# Altium integrated library SmartLoad_LIB.IntLib: 50 symbols (part 1 of 2)
Pins are listed as number, name and electrical type; pins without a type are passive.

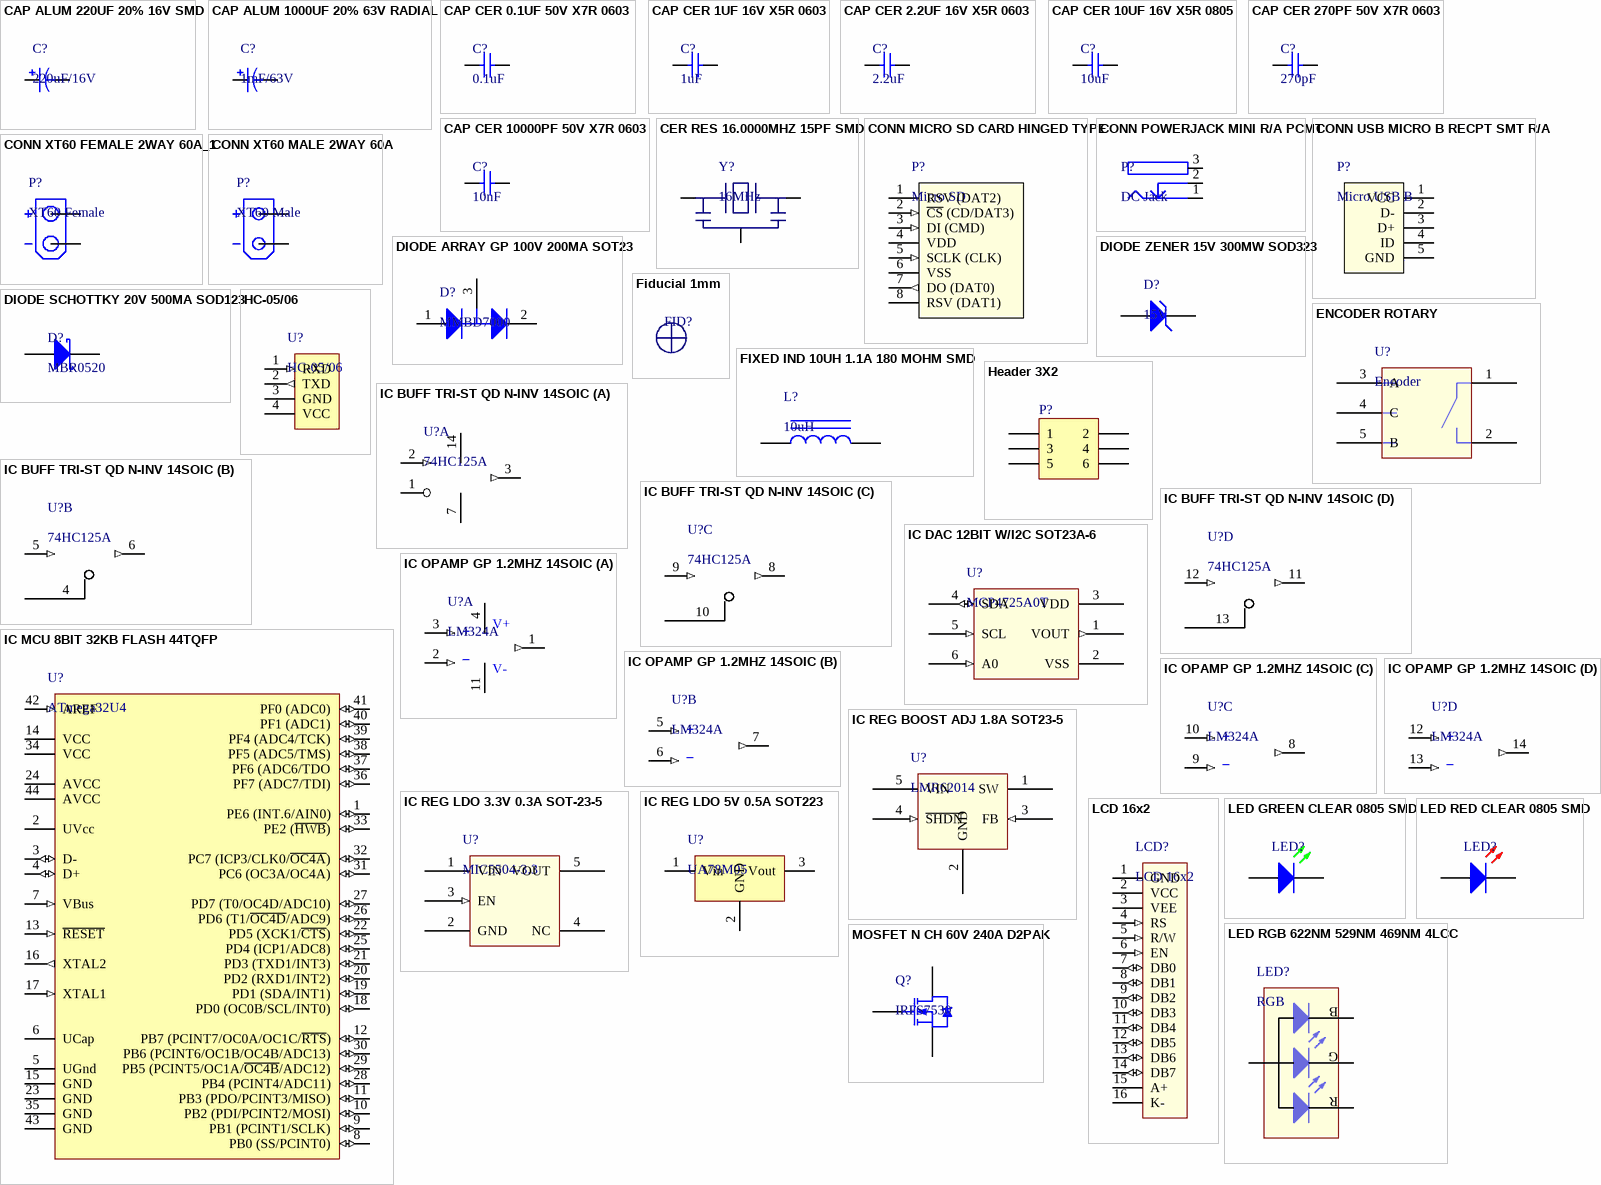
[diagram p0: symbols CAP ALUM 220UF 20% 16V SMD to MOSFET N CH 60V 240A D2PAK]

## CAP ALUM 220UF 20% 16V SMD
designator C?, comment 220uF/16V
CAP ALUM 220UF 20% 16V SMD; Manufacturer: Nichicon; Manufacturer Part Number: UUR1C221MNL1GS; Capacitance: 220µF; Lifetime @ Temp.: 2000 Hrs @ 85°C; Ripple Current: 215mA; Surface Mount Land Size: 0.327" L x 0.327" W (8.30mm x 8.30mm); Supplier 1: Digi-Key; RoHS: RoHS Compliant; Category: Capacitors; Stock 1: 6008; Pricing 1: 1=0.47, 10=0.329, 25=0.2696, 50=0.23, 100=0.1972, 250=0.16436 (USD); Packaging: Cut Tape (CT); Part Status: Active; Tolerance: ±20%; Voltage Rating: 16V; ESR (Equivalent Series Resistance): -; Operating Temperature: -40°C ~ 85°C; Polarization: -; Applications: General Purpose; Impedance: -; Lead Spacing: -; Size / Dimension: 0.315" Dia (8.00mm); Height - Seated (Max): 0.413" (10.50mm); Mounting Type: Surface Mount; Package / Case: Radial, Can - SMD; ComponentLink1URL: http://nichicon-us.com/english/products/pdfs/e-uur.pdf; ComponentLink1Description: http://nichicon-us.com/english/products/pdfs/e-uur.pdf; Supplier Part Number 1: 493-6215-1-ND
footprint CAP 8x10 (Aluminum Electrolytic Capacitor, Body 8,30x8,30x10,80mm, IPC Medium Density)
pins: 1, 2

## CAP ALUM 1000UF 20% 63V RADIAL
designator C?, comment 1mF/63V
CAP ALUM 1000UF 20% 63V RADIAL; Manufacturer: Nichicon; Manufacturer Part Number: UVR1J102MHD; Capacitance: 1000µF; Lifetime @ Temp.: 2000 Hrs @ 85°C; Ripple Current: 1.3A; Supplier 1: Digi-Key; RoHS: RoHS Compliant; Category: Capacitors; Stock 1: 13776; Pricing 1: 1=0.96, 10=0.759, 25=0.6956, 50=0.6576, 100=0.569, 250=0.5058, 500=0.42994, 1000=0.37935, 2500=0.35406 (USD); Packaging: Bulk; Part Status: Active; Tolerance: ±20%; Voltage Rating: 63V; ESR (Equivalent Series Resistance): -; Operating Temperature: -40°C ~ 85°C; Polarization: -; Applications: General Purpose; Impedance: -; Lead Spacing: 0.295" (7.50mm); Size / Dimension: 0.630" Dia (16.00mm); Height - Seated (Max): 1.063" (27.00mm); Surface Mount Land Size: -; Mounting Type: Through Hole; Package / Case: Radial, Can; ComponentLink1URL: http://nichicon-us.com/english/products/pdfs/e-uvr.pdf; ComponentLink1Description: http://nichicon-us.com/english/products/pdfs/e-uvr.pdf; Supplier Part Number 1: 493-1129-ND
footprint CAP RAD 16x25
footprint CAP RAD 16x25 RIGHT1
footprint CAP RAD 16x25 RIGHT2
pins: 1, 2

## CAP CER 0.1UF 50V X7R 0603
designator C?, comment 0.1uF
CAP CER 0.1UF 50V X7R 0603; Manufacturer: Murata Electronics North America; Manufacturer Part Number: GRM188R71H104KA93D; Capacitance: 0.10µF; Tolerance: ±10%; Supplier 1: Digi-Key; RoHS: RoHS Compliant; Category: Capacitors; Stock 1: 8915214; Pricing 1: 1=0.1, 10=0.04, 50=0.0214, 100=0.0182, 250=0.01484, 500=0.0127, 1000=0.0099 (USD); Packaging: Cut Tape (CT); Part Status: Active; Voltage - Rated: 50V; Temperature Coefficient: X7R; Operating Temperature: -55°C ~ 125°C; Features: -; Ratings: -; Applications: General Purpose; Failure Rate: *; Mounting Type: Surface Mount, MLCC; Package / Case: 0603 (1608 Metric); Size / Dimension: 0.063" L x 0.031" W (1.60mm x 0.80mm); Height - Seated (Max): -; Thickness (Max): 0.035" (0.90mm); Lead Spacing: -; Lead Style: -; ComponentLink1URL: http://www.murata.com/~/media/webrenewal/support/library/catalog/products/capacitor/mlcc/c02e.pdf; ComponentLink1Description: http://www.murata.com/~/media/webrenewal/support/library/catalog/products/capacitor/mlcc/c02e.pdf; Supplier Part Number 1: 490-1519-1-ND
footprint CAP 0603 N (Chip, Body 1.6x0.8mm, IPC Medium Density)
pins: 1, 2

## CAP CER 1UF 16V X5R 0603
designator C?, comment 1uF
CAP CER 1UF 16V X5R 0603; Manufacturer: Murata Electronics North America; Manufacturer Part Number: GRM188R61C105KA93D; Capacitance: 1µF; Tolerance: ±10%; Supplier 1: Digi-Key; RoHS: RoHS Compliant; Category: Capacitors; Stock 1: 899102; Pricing 1: 1=0.1, 10=0.034, 50=0.0182, 100=0.0154, 250=0.0126, 500=0.01078, 1000=0.0084 (USD); Packaging: Cut Tape (CT); Part Status: Active; Voltage - Rated: 16V; Temperature Coefficient: X5R; Operating Temperature: -55°C ~ 85°C; Features: -; Ratings: -; Applications: General Purpose; Failure Rate: *; Mounting Type: Surface Mount, MLCC; Package / Case: 0603 (1608 Metric); Size / Dimension: 0.063" L x 0.031" W (1.60mm x 0.80mm); Height - Seated (Max): -; Thickness (Max): 0.035" (0.90mm); Lead Spacing: -; Lead Style: -; ComponentLink1URL: http://www.murata.com/~/media/webrenewal/support/library/catalog/products/capacitor/mlcc/c02e.pdf; ComponentLink1Description: http://www.murata.com/~/media/webrenewal/support/library/catalog/products/capacitor/mlcc/c02e.pdf; Supplier Part Number 1: 490-1536-1-ND
footprint CAP 0603 N (Chip, Body 1.6x0.8mm, IPC Medium Density)
pins: 1, 2

## CAP CER 2.2UF 16V X5R 0603
designator C?, comment 2.2uF
CAP CER 2.2UF 16V X5R 0603; Manufacturer: Murata Electronics North America; Manufacturer Part Number: GRM188R61C225KE15D; Capacitance: 2.2µF; Tolerance: ±10%; Supplier 1: Digi-Key; RoHS: RoHS Compliant; Category: Capacitors; Stock 1: 904112; Pricing 1: 1=0.12, 10=0.08, 50=0.046, 100=0.038, 250=0.032, 500=0.0268, 1000=0.022 (USD); Packaging: Cut Tape (CT); Part Status: Active; Voltage - Rated: 16V; Temperature Coefficient: X5R; Operating Temperature: -55°C ~ 85°C; Features: -; Ratings: -; Applications: General Purpose; Failure Rate: *; Mounting Type: Surface Mount, MLCC; Package / Case: 0603 (1608 Metric); Size / Dimension: 0.063" L x 0.031" W (1.60mm x 0.80mm); Height - Seated (Max): -; Thickness (Max): 0.035" (0.90mm); Lead Spacing: -; Lead Style: -; ComponentLink1URL: http://www.murata.com/~/media/webrenewal/support/library/catalog/products/capacitor/mlcc/c02e.pdf; ComponentLink1Description: http://www.murata.com/~/media/webrenewal/support/library/catalog/products/capacitor/mlcc/c02e.pdf; Supplier Part Number 1: 490-3296-1-ND
footprint CAP 0603 N (Chip, Body 1.6x0.8mm, IPC Medium Density)
pins: 1, 2

## CAP CER 10UF 16V X5R 0805
designator C?, comment 10uF
CAP CER 10UF 16V X5R 0805; Manufacturer: Murata Electronics North America; Manufacturer Part Number: GRM21BR61C106KE15L; Capacitance: 10µF; Tolerance: ±10%; Supplier 1: Digi-Key; RoHS: RoHS Compliant; Category: Capacitors; Stock 1: 517451; Pricing 1: 1=0.19, 10=0.13, 50=0.0748, 100=0.0618, 250=0.052, 500=0.04356, 1000=0.03575 (USD); Packaging: Cut Tape (CT); Part Status: Active; Voltage - Rated: 16V; Temperature Coefficient: X5R; Operating Temperature: -55°C ~ 85°C; Features: -; Ratings: -; Applications: General Purpose; Failure Rate: *; Mounting Type: Surface Mount, MLCC; Package / Case: 0805 (2012 Metric); Size / Dimension: 0.079" L x 0.049" W (2.00mm x 1.25mm); Height - Seated (Max): -; Thickness (Max): 0.053" (1.35mm); Lead Spacing: -; Lead Style: -; ComponentLink1URL: http://www.murata.com/~/media/webrenewal/support/library/catalog/products/capacitor/mlcc/c02e.pdf; ComponentLink1Description: http://www.murata.com/~/media/webrenewal/support/library/catalog/products/capacitor/mlcc/c02e.pdf; Supplier Part Number 1: 490-3886-1-ND
footprint CAP 0805 N (Chip, Body 2.0x1.3mm, IPC Medium Density)
pins: 1, 2

## CAP CER 270PF 50V X7R 0603
designator C?, comment 270pF
CAP CER 270PF 50V X7R 0603; Manufacturer: Murata Electronics North America; Manufacturer Part Number: GRM188R71H271KA01D; Tolerance: ±10%; Supplier 1: Digi-Key; RoHS: RoHS Compliant; Category: Capacitors; Stock 1: 28424; Pricing 1: 1=0.1, 10=0.072, 50=0.039, 100=0.033, 250=0.027, 500=0.0231, 1000=0.018 (USD); Packaging: Cut Tape (CT); Part Status: Active; Capacitance: 270pF; Voltage - Rated: 50V; Temperature Coefficient: X7R; Operating Temperature: -55°C ~ 125°C; Features: -; Ratings: -; Applications: General Purpose; Failure Rate: *; Mounting Type: Surface Mount, MLCC; Package / Case: 0603 (1608 Metric); Size / Dimension: 0.063" L x 0.031" W (1.60mm x 0.80mm); Height - Seated (Max): -; Thickness (Max): 0.035" (0.90mm); Lead Spacing: -; Lead Style: -; ComponentLink1URL: http://www.murata.com/~/media/webrenewal/support/library/catalog/products/capacitor/mlcc/c02e.pdf; ComponentLink1Description: http://www.murata.com/~/media/webrenewal/support/library/catalog/products/capacitor/mlcc/c02e.pdf; Supplier Part Number 1: 490-1485-1-ND
footprint CAP 0603 N (Chip, Body 1.6x0.8mm, IPC Medium Density)
pins: 1, 2

## CAP CER 10000PF 50V X7R 0603
designator C?, comment 10nF
CAP CER 10000PF 50V X7R 0603; Manufacturer: Murata Electronics North America; Manufacturer Part Number: GRM188R71H103KA01D; Tolerance: ±10%; Supplier 1: Digi-Key; RoHS: RoHS Compliant; Category: Capacitors; Stock 1: 3372883; Pricing 1: 1=0.1, 10=0.019, 50=0.01, 100=0.0085, 250=0.00696, 500=0.00596, 1000=0.00465 (USD); Packaging: Cut Tape (CT); Part Status: Active; Capacitance: 10000pF; Voltage - Rated: 50V; Temperature Coefficient: X7R; Operating Temperature: -55°C ~ 125°C; Features: -; Ratings: -; Applications: General Purpose; Failure Rate: *; Mounting Type: Surface Mount, MLCC; Package / Case: 0603 (1608 Metric); Size / Dimension: 0.063" L x 0.031" W (1.60mm x 0.80mm); Height - Seated (Max): -; Thickness (Max): 0.035" (0.90mm); Lead Spacing: -; Lead Style: -; ComponentLink1URL: http://www.murata.com/~/media/webrenewal/support/library/catalog/products/capacitor/mlcc/c02e.pdf; ComponentLink1Description: http://www.murata.com/~/media/webrenewal/support/library/catalog/products/capacitor/mlcc/c02e.pdf; Supplier Part Number 1: 490-1512-1-ND
footprint CAP 0603 N (Chip, Body 1.6x0.8mm, IPC Medium Density)
pins: 1, 2

## CER RES 16.0000MHZ 15PF SMD
designator Y?, comment 16MHz
CER RES 16.0000MHZ 15PF SMD; Manufacturer: Murata Electronics North America; Manufacturer Part Number: CSTCE16M0V53-R0; Frequency Stability: ±0.3%; Frequency Tolerance: ±0.5%; Supplier 1: Digi-Key; RoHS: RoHS Compliant; Category: Crystals and Oscillators; Stock 1: 39156; Pricing 1: 1=0.48, 10=0.4, 50=0.3602, 100=0.3205, 500=0.30368, 1000=0.25637 (USD); Packaging: Cut Tape (CT); Part Status: Active; Type: Ceramic; Frequency: 16MHz; Features: Built in Capacitor; Capacitance: 15pF; Impedance: -; Operating Temperature: -20°C ~ 80°C; Mounting Type: Surface Mount; Package / Case: 3-SMD, Non-Standard; Size / Dimension: 0.126" L x 0.051" W (3.20mm x 1.30mm); Height: 0.039" (1.00mm); ComponentLink1URL: http://www.murata.com/~/media/webrenewal/support/library/catalog/products/timingdevice/ceralock/p16e.ashx; ComponentLink1Description: http://www.murata.com/~/media/webrenewal/support/library/catalog/products/timingdevice/ceralock/p16e.ashx; Supplier Part Number 1: 490-1198-1-ND
footprint CSTCE
pins: 1, 2 GND, 3 10

## CONN MICRO SD CARD HINGED TYPE
designator P?, comment Micro SD
CONN MICRO SD CARD HINGED TYPE; Manufacturer: Molex, LLC; Manufacturer Part Number: 0472192001; Card Type: Secure Digital - microSD™; Number of Positions: 8; Connector Type: Connector and Ejector; Insertion, Removal Method: Hinged Lid; Supplier 1: Digi-Key; RoHS: RoHS Compliant; Category: Connectors, Interconnects; Stock 1: 0; Pricing 1: 1=1.11, 10=0.973, 25=0.916, 50=0.8776, 100=0.8395, 250=0.7632, 500=0.68686, 1000=0.61054 (USD); Packaging: Cut Tape (CT); Ejector Side: -; Mounting Type: Surface Mount, Right Angle; Features: -; Height Above Board: 0.075" (1.90mm); Mounting Feature: Normal, Standard - Top; Contact Finish: Gold; Contact Finish Thickness: 20µin (0.51µm); ComponentLink1URL: http://www.molex.com/pdm_docs/sd/472192001_sd.pdf; ComponentLink1Description: http://www.molex.com/pdm_docs/sd/472192001_sd.pdf; Supplier Part Number 1: WM6698CT-ND
footprint USD SOCKET (Micro SD Socket)
pins: 1 RSV (DAT2), 2 ~{CS} (CD/DAT3) (in), 3 DI (CMD) (in), 4 VDD (power), 5 SCLK (CLK) (in), 6 VSS (power), 7 DO (DAT0) (out), 8 RSV (DAT1), G1 GND hidden to GND, G2 GND hidden to GND, G3 GND hidden to GND, G4 GND hidden to GND
1 alternate drawing of the same symbol

## CONN POWERJACK MINI R/A PCMT
designator P?, comment DC Jack
CONN POWERJACK MINI R/A PCMT; Manufacturer: Switchcraft Inc.; Manufacturer Part Number: RAPC712X; Gender: Male; Industry Recognized Mating Diameter: 2.50mm ID (0.098"), 5.50mm OD (0.217"); Actual Diameter: 0.098" (2.50mm ID), 0.248" (6.30mm OD); Number of Positions/Contacts: 2 Conductors, 3 Contacts; Internal Switch(s): Single Switch, Normally Closed; Shielding: Unshielded; Current Rating: 5A; Includes: 1 pc - 1 Connector; Supplier 1: Digi-Key; RoHS: RoHS Compliant; Category: Connectors, Interconnects; Stock 1: 37774; Pricing 1: 1=0.9, 10=0.833, 25=0.7856, 50=0.7616, 100=0.7259, 250=0.714, 500=0.7 (USD); Packaging: Bulk; Part Status: Active; Connector Type: Jack; Mounting Type: Through Hole, Right Angle; Mounting Feature: -; Termination: Solder Eyelet(s); Features: -; Insulation Color: -; Voltage - Rated: -; Mating Length/Depth: -; Contact Material - Plating: Silver; Body Material: -; Operating Temperature: -; ComponentLink1URL: http://www.conxall.com/Drawings/rapc712x_cd.pdf; ComponentLink1Description: http://www.conxall.com/Drawings/rapc712x_cd.pdf; Supplier Part Number 1: SC237-ND
footprint PJ-002B (DC Power Jack, 2.5mm, KLD Series, PCB Mount)
pins: 1 GND (power), 2 DETECT, 3 V+ (power)

## CONN USB MICRO B RECPT SMT R/A
designator P?, comment Micro USB B
CONN USB MICRO B RECPT SMT R/A; Manufacturer: Amphenol FCI; Manufacturer Part Number: 10118192-0001LF; Connector Type: USB - micro B; Number of Contacts: 5; Gender: Receptacle; Specifications: USB 2.0; Supplier 1: Digi-Key; RoHS: RoHS Compliant; Category: Connectors, Interconnects; Stock 1: 283825; Pricing 1: 1=0.46, 10=0.437, 25=0.3744, 50=0.318, 100=0.3056, 250=0.27444, 500=0.26196 (USD); Packaging: Cut Tape (CT); Part Status: Active; Mounting Type: Surface Mount, Right Angle, Horizontal; Features: Flange, Shielded; Ingress Protection: -; ComponentLink1URL: http://portal.fciconnect.com/Comergent//fci/drawing/10118192.pdf; ComponentLink1Description: http://portal.fciconnect.com/Comergent//fci/drawing/10118192.pdf; Supplier Part Number 1: 609-4613-1-ND
footprint MICRO USB B (Connector Micro USB B Receptacle SMT)
pins: 1 VCC, 2 D-, 3 D+, 4 ID, 5 GND

## CONN XT60 FEMALE 2WAY 60A_1
designator P?, comment XT60 Female
CONN XT60 FEMALE 2WAY 60A; Manufacturer: Turnigy; No. of Contacts: 2; Gender: Connector (Female); Pitch Spacing: 7.15mm; Contact Termination Type: Through Hole; No. of Rows: 1; Contact Termination: Through Hole Vertical; Current Rating: 60; Supplier 1: HobbyKing; Manufacturer Part Number: XT60; Stock 1: Available; Pricing 1: 5=2.85 (USD); Contact Plating: Gold; Lead Spacing: 7.15mm; Termination Method: Solder; ComponentLink1URL: http://www.hobbyking.com/hobbyking/store/__18448__Female_XT60_Connectors_5pcs_bag_GENUINE.html; ComponentLink1Description: http://www.hobbyking.com/hobbyking/store/__18448__Female_XT60_Connectors_5pcs_bag_GENUINE.html; ComponentLink2URL: http://www.3dcontentcentral.com/secure/download-model.aspx?catalogid=171&id=221628; ComponentLink2Description: http://www.3dcontentcentral.com/secure/download-model.aspx?catalogid=171&id=221628; Supplier Part Number 1: 601Bx5
footprint XT60 FEMALE
pins: 1 + (power), 2 - (power)

## CONN XT60 MALE 2WAY 60A
designator P?, comment XT60 Male
CONN XT60 MALE 2WAY 60A; Manufacturer: Turnigy; No. of Contacts: 2; Gender: Connector (Male); Pitch Spacing: 7.15mm; Contact Termination Type: Through Hole; No. of Rows: 1; Contact Termination: Through Hole Vertical; Current Rating: 60; Supplier 1: HobbyKing; Manufacturer Part Number: XT60; Stock 1: Available; Pricing 1: 5=2.02 (USD); Contact Plating: Gold; Lead Spacing: 7.15mm; Termination Method: Solder; ComponentLink1URL: http://www.hobbyking.com/hobbyking/store/__10414__Male_XT60_Connectors_5pcs_bag_GENUINE.html; ComponentLink1Description: http://www.hobbyking.com/hobbyking/store/__10414__Male_XT60_Connectors_5pcs_bag_GENUINE.html; ComponentLink2URL: http://www.3dcontentcentral.com/secure/download-model.aspx?catalogid=171&id=221629; ComponentLink2Description: http://www.3dcontentcentral.com/secure/download-model.aspx?catalogid=171&id=221629; Supplier Part Number 1: 601Ax5
footprint XT60 MALE
pins: 1 + (power), 2 - (power)

## DIODE ARRAY GP 100V 200MA SOT23
designator D?, comment MMBD7000
DIODE ARRAY GP 100V 200MA SOT23; Manufacturer: ON Semiconductor; Manufacturer Part Number: MMBD7000LT1G; Diode Configuration: 1 Pair Series Connection; Diode Type: Standard; Current - Average Rectified (Io) (per Diode): 200mA (DC); Voltage - Forward (Vf) (Max) @ If: 1.1V @ 100mA; Speed: Small Signal =< 200mA (Io), Any Speed; Reverse Recovery Time (trr): 4ns; Current - Reverse Leakage @ Vr: 3µA @ 100V; Supplier 1: Digi-Key; RoHS: RoHS Compliant; Category: Discrete Semiconductor Products; Stock 1: 116635; Pricing 1: 1=0.13, 10=0.115, 100=0.0626, 500=0.0385, 1000=0.02627 (USD); Packaging: Cut Tape (CT); Voltage - DC Reverse (Vr) (Max): 100V; Mounting Type: Surface Mount; Package / Case: TO-236-3, SC-59, SOT-23-3; Supplier Device Package: SOT-23-3 (TO-236); ComponentLink1URL: http://www.onsemi.com/pub_link/Collateral/MMBD7000LT1-D.PDF; ComponentLink1Description: http://www.onsemi.com/pub_link/Collateral/MMBD7000LT1-D.PDF; Supplier Part Number 1: MMBD7000LT1GOSCT-ND
footprint SOT23-3 N (SOT23, 3-Leads, Body 2.9x1.3mm, Pitch 0.95mm, Lead Span 2.5mm, IPC Medium Density)
pins: 1 A, 2 K, 3 K/A

## DIODE SCHOTTKY 20V 500MA SOD123
designator D?, comment MBR0520
DIODE SCHOTTKY 20V 500MA SOD123; Manufacturer: ON Semiconductor; Manufacturer Part Number: MBR0520LT1G; Voltage - Forward (Vf) (Max) @ If: 385mV @ 500mA; Speed: Fast Recovery =< 500ns, > 200mA (Io); Current - Reverse Leakage @ Vr: 250µA @ 20V; Supplier 1: Digi-Key; RoHS: RoHS Compliant; Category: Discrete Semiconductor Products; Stock 1: 170961; Pricing 1: 1=0.33, 10=0.273, 100=0.1444, 500=0.09496, 1000=0.0647 (USD); Packaging: Cut Tape (CT); Part Status: Active; Diode Type: Schottky; Voltage - DC Reverse (Vr) (Max): 20V; Current - Average Rectified (Io): 500mA; Reverse Recovery Time (trr): -; Capacitance @ Vr, F: -; Mounting Type: Surface Mount; Package / Case: SOD-123; Supplier Device Package: SOD-123; Operating Temperature - Junction: -65°C ~ 125°C; ComponentLink1URL: http://www.onsemi.com/pub_link/Collateral/MBR0520LT1-D.PDF; ComponentLink1Description: http://www.onsemi.com/pub_link/Collateral/MBR0520LT1-D.PDF; Supplier Part Number 1: MBR0520LT1GOSCT-ND
footprint SOD123 (SODFL, 2-Leads, Body 1,60x3,71mm, IPC Medium Density)
pins: 1 A, 2 K

## DIODE ZENER 15V 300MW SOD323
designator D?, comment 15V
DIODE ZENER 15V 300MW SOD323; Manufacturer: ON Semiconductor; Manufacturer Part Number: MM3Z15VT1G; Tolerance: ±5%; Impedance (Max) (Zzt): 30 Ohm; Current - Reverse Leakage @ Vr: 50nA @ 10.5V; Voltage - Forward (Vf) (Max) @ If: 900mV @ 10mA; Supplier 1: Digi-Key; RoHS: RoHS Compliant; Category: Discrete Semiconductor Products; Stock 1: 28790; Pricing 1: 1=0.14, 10=0.131, 100=0.0715, 500=0.04394, 1000=0.02997 (USD); Packaging: Cut Tape (CT); Voltage - Zener (Nom) (Vz): 15V; Power - Max: 300mW; Operating Temperature: -65°C ~ 150°C; Mounting Type: Surface Mount; Package / Case: SC-76, SOD-323; Supplier Device Package: SOD-323; ComponentLink1URL: http://www.onsemi.com/pub_link/Collateral/MM3Z2V4T1-D.PDF; ComponentLink1Description: http://www.onsemi.com/pub_link/Collateral/MM3Z2V4T1-D.PDF; Supplier Part Number 1: MM3Z15VT1GOSCT-ND
footprint SOD323
pins: 1 A, 2 K

## ENCODER ROTARY
designator U?, comment Encoder
ENCODER ROTARY; Manufacturer: Bourns Inc.; Manufacturer Part Number: PEC11R-4215F-S0024; Encoder Type: Mechanical; Output Type: Quadrature (Incremental); Pulses per Revolution: 24; Actuator Type: 6mm Dia Flatted End; Detent: Yes; Rotational Life (Cycles Min): 30K; Supplier 1: Digi-Key; RoHS: RoHS Compliant; Category: Sensors, Transducers; Stock 1: 375; Pricing 1: 1=1.68, 10=1.566, 25=1.4792, 50=1.305, 100=1.073, 250=1.044, 500=0.986, 1000=0.928, 2500=0.87 (USD); Part Status: Active; Voltage - Supply: -; Built in Switch: Yes; Mounting Type: Panel, PCB Through Hole; Orientation: Vertical; Termination Style: PC Pin; ComponentLink1URL: http://www.bourns.com/docs/Product-Datasheets/PEC11R.pdf; ComponentLink1Description: http://www.bourns.com/docs/Product-Datasheets/PEC11R.pdf; Supplier Part Number 1: PEC11R-4215F-S0024-ND
footprint ENCODER 15MM
pins: 1, 2, 3 A, 4 C, 5 B

## Fiducial 1mm
designator FID?  (value not drawn)  (no BOM)
footprint FIDUCIAL

## FIXED IND 10UH 1.1A 180 MOHM SMD
designator L?, comment 10uH
FIXED IND 10UH 1.1A 180 MOHM SMD; Manufacturer: Bourns Inc.; Manufacturer Part Number: SRN4012TA-100M; Type: Wirewound; Material - Core: Ferrite; Inductance: 10µH; Tolerance: ±20%; Current - Saturation: 800mA; Shielding: Unshielded; Q @ Freq: 10 @ 100kHz; Frequency - Self Resonant: 30MHz; Frequency - Test: 100kHz; Supplier 1: Digi-Key; RoHS: RoHS Compliant; Category: Inductors, Coils, Chokes; Stock 1: 500; Pricing 1: 1=0.3, 10=0.27, 25=0.24, 50=0.21, 100=0.195, 250=0.18, 500=0.171, 1000=0.138 (USD); Packaging: Cut Tape (CT); Part Status: Active; Current Rating: 1.1A; DC Resistance (DCR): 180 mOhm; Ratings: AEC-Q200; Operating Temperature: -40°C ~ 125°C; Mounting Type: Surface Mount; Package / Case: Nonstandard; Size / Dimension: 0.157" L x 0.157" W (4.00mm x 4.00mm); Height - Seated (Max): 0.047" (1.20mm); ComponentLink1URL: http://www.bourns.com/docs/Product-Datasheets/SRN4012TA.pdf; ComponentLink1Description: http://www.bourns.com/docs/Product-Datasheets/SRN4012TA.pdf; Supplier Part Number 1: SRN4012TA-100MCT-ND
footprint IND 4012
pins: 1, 2

## HC-05/06
designator U?
HC-05/06 Bluetooth Module
footprint HC-05/06 (HC-05/06 Bluetooth Module)
pins: 1 RXD (in), 2 TXD (out), 3 GND (power), 4 VCC

## Header 3X2
designator P?
Header, 3-Pin, Dual row; LatestRevisionDate: 17-Jul-2002; LatestRevisionNote: Re-released for DXP Platform.; Publisher: Altium Limited
signal-integrity model Connector
footprint HEADER 2X3 (Connector; Header; 3x2 Position)
pins: 1, 2, 3, 4, 5, 6

## IC BUFF TRI-ST QD N-INV 14SOIC
designator U?, comment 74HC125A
IC BUFF TRI-ST QD N-INV 14SOIC; Manufacturer: ON Semiconductor; Manufacturer Part Number: MC74HC125ADR2G; Logic Type: Buffer, Non-Inverting; Number of Elements: 4; Number of Bits per Element: 1; Output Type: Push-Pull; Current - Output High, Low: 7.8mA, 7.8mA; Voltage - Supply: 2 V ~ 6 V; Supplier 1: Digi-Key; RoHS: RoHS Compliant; Category: Integrated Circuits (ICs); Stock 1: 6470; Pricing 1: 1=0.38, 10=0.306, 100=0.2089, 500=0.15636, 1000=0.11711 (USD); Packaging: Cut Tape (CT); Part Status: Active; Input Type: -; Operating Temperature: -55°C ~ 125°C (TA); Mounting Type: Surface Mount; Package / Case: 14-SOIC (0.154", 3.90mm Width); Supplier Device Package: 14-SOIC; ComponentLink1URL: http://www.onsemi.com/pub_link/Collateral/MC74HC125A-D.PDF; ComponentLink1Description: http://www.onsemi.com/pub_link/Collateral/MC74HC125A-D.PDF; Supplier Part Number 1: MC74HC125ADR2GOSCT-ND
footprint SOIC-14 N
part A pins: 1 ~{OE1}, 2 A1 (in), 3 Y1 (out), 7 GND (power), 14 VCC (power)
part B pins: 4 ~{OE2}, 5 A2 (in), 6 Y2 (out)
part C pins: 8 Y3 (out), 9 A3 (in), 10 ~{OE3}
part D pins: 11 Y4 (out), 12 A4 (in), 13 ~{OE4}
1 alternate drawing of the same symbol

## IC DAC 12BIT W/I2C SOT23A-6
designator U?, comment MCP4725A0T
IC DAC 12BIT W/I2C SOT23A-6; Manufacturer: Microchip Technology; Manufacturer Part Number: MCP4725A0T-E/CH; Number of Bits: 12; Number of D/A Converters: 1; Settling Time: 6µs (Typ); Output Type: Voltage - Buffered; Differential Output: No; Data Interface: I²C; Reference Type: Supply; Voltage - Supply, Analog: 2.7 V ~ 5.5 V; INL/DNL (LSB): ±2, ±0.2; Architecture: String DAC; Supplier 1: Digi-Key; RoHS: RoHS Compliant; Category: Integrated Circuits (ICs); Stock 1: 13296; Pricing 1: 1=0.96, 25=0.8, 100=0.73 (USD); Packaging: Cut Tape (CT); Part Status: Active; Voltage - Supply, Digital: 2.7 V ~ 5.5 V; Operating Temperature: -40°C ~ 125°C; Package / Case: SOT-23-6; Supplier Device Package: SOT-23-6; ComponentLink1URL: http://www.microchip.com/mymicrochip/filehandler.aspx?ddocname=en532676; ComponentLink1Description: http://www.microchip.com/mymicrochip/filehandler.aspx?ddocname=en532676; Supplier Part Number 1: MCP4725A0T-E/CHCT-ND
footprint SOT23-6 N
pins: 1 VOUT (out), 2 VSS (power), 3 VDD (power), 4 SDA (io), 5 SCL (in), 6 A0 (in)

## IC MCU 8BIT 32KB FLASH 44TQFP
designator U?, comment ATmega32U4
IC MCU 8BIT 32KB FLASH 44TQFP; Manufacturer: Atmel; Manufacturer Part Number: ATMEGA32U4-AU; Core Processor: AVR; Core Size: 8-Bit; Speed: 16MHz; Connectivity: I²C, SPI, UART/USART, USB; Peripherals: Brown-out Detect/Reset, POR, PWM, WDT; Number of I/O: 26; Program Memory Size: 32KB (16K x 16); EEPROM Size: 1K x 8; RAM Size: 2.5K x 8; Voltage - Supply (Vcc/Vdd): 2.7 V ~ 5.5 V; Data Converters: A/D 12x10b; Oscillator Type: Internal; Supplier 1: Digi-Key; RoHS: RoHS Compliant; Category: Integrated Circuits (ICs); Stock 1: 6343; Pricing 1: 1=6.35, 10=5.715, 25=5.2064, 100=4.6986, 250=4.31768, 500=3.9367, 1000=3.5275 (USD); Packaging: Tray; Part Status: Active; Program Memory Type: FLASH; Operating Temperature: -40°C ~ 85°C (TA); Package / Case: 44-TQFP; Supplier Device Package: 44-TQFP (10x10); ComponentLink1URL: http://www.atmel.com/Images/Atmel-7766-8-bit-AVR-ATmega16U4-32U4_Summary.pdf; ComponentLink1Description: http://www.atmel.com/Images/Atmel-7766-8-bit-AVR-ATmega16U4-32U4_Summary.pdf; Supplier Part Number 1: ATMEGA32U4-AU-ND
footprint TQFP-44 N (Thin QFP, 44-Leads, Body 10x10mm, Pitch 0.8mm, IPC Medium Density)
pins: 1 PE6 (INT.6/AIN0) (io), 2 UVcc (power), 3 D- (io), 4 D+ (io), 5 UGnd (power), 6 UCap, 7 VBus (in), 8 PB0 (SS/PCINT0) (io), 9 PB1 (PCINT1/SCLK) (io), 10 PB2 (PDI/PCINT2/MOSI) (io), 11 PB3 (PDO/PCINT3/MISO) (io), 12 PB7 (PCINT7/OC0A/OC1C/~{RTS}) (io), 13 ~{RESET} (in), 14 VCC (power), 15 GND (power), 16 XTAL2 (out), 17 XTAL1 (in), 18 PD0 (OC0B/SCL/INT0) (io), 19 PD1 (SDA/INT1) (io), 20 PD2 (RXD1/INT2) (io), 21 PD3 (TXD1/INT3) (io), 22 PD5 (XCK1/~{CTS}) (io), 23 GND (power), 24 AVCC (power), 25 PD4 (ICP1/ADC8) (io), 26 PD6 (T1/~{OC4D}/ADC9) (io), 27 PD7 (T0/OC4D/ADC10) (io), 28 PB4 (PCINT4/ADC11) (io), 29 PB5 (PCINT5/OC1A/~{OC4B}/ADC12) (io), 30 PB6 (PCINT6/OC1B/OC4B/ADC13) (io), 31 PC6 (OC3A/OC4A) (io), 32 PC7 (ICP3/CLK0/~{OC4A}) (io), 33 PE2 (~{HWB}) (io), 34 VCC (power), 35 GND (power), 36 PF7 (ADC7/TDI) (io), 37 PF6 (ADC6/TDO (io), 38 PF5 (ADC5/TMS) (io), 39 PF4 (ADC4/TCK) (io), 40 PF1 (ADC1) (io), 41 PF0 (ADC0) (io), 42 AREF (in), 43 GND (power), 44 AVCC (power)

## IC OPAMP GP 1.2MHZ 14SOIC
designator U?, comment LM324A
IC OPAMP GP 1.2MHZ 14SOIC; Manufacturer: Texas Instruments; Manufacturer Part Number: LM324ADR; Amplifier Type: General Purpose; Number of Circuits: 4; Slew Rate: 0.5 V/µs; Current - Input Bias: 20nA; Voltage - Input Offset: 3mV; Current - Supply: 1.4mA; Current - Output / Channel: 60mA; Voltage - Supply, Single/Dual (±): 3 V ~ 32 V, ±1.5 V ~ 16 V; Supplier 1: Digi-Key; RoHS: RoHS Compliant; Category: Integrated Circuits (ICs); Stock 1: 42230; Pricing 1: 1=0.36, 10=0.295, 100=0.2013, 500=0.15068, 1000=0.11285 (USD); Packaging: Cut Tape (CT); Part Status: Active; Output Type: -; Gain Bandwidth Product: 1.2MHz; -3db Bandwidth: -; Operating Temperature: 0°C ~ 70°C; Mounting Type: Surface Mount; Package / Case: 14-SOIC (0.154", 3.90mm Width); Supplier Device Package: 14-SOIC; ComponentLink1URL: http://www.ti.com/lit/ds/symlink/lm224.pdf; ComponentLink1Description: http://www.ti.com/lit/ds/symlink/lm224.pdf; Supplier Part Number 1: 296-9540-1-ND
footprint SOIC-14 N
part A pins: 1 1OUT (out), 2 1IN- (in), 3 1IN+ (in), 4 VCC (power), 11 GND (power)
part B pins: 5 2IN+ (in), 6 2IN- (in), 7 2OUT (out)
part C pins: 8 3OUT (out), 9 3IN- (in), 10 3IN+ (in)
part D pins: 12 4IN+ (in), 13 4IN- (in), 14 4OUT (out)
1 alternate drawing of the same symbol
part A text: V+; +; _; V-
part B text: +; _
part C text: +; _
part D text: +; _

## IC REG BOOST ADJ 1.8A SOT23-5
designator U?, comment LMR62014
IC REG BOOST ADJ 1.8A SOT23-5; Manufacturer: Texas Instruments; Manufacturer Part Number: LMR62014XMF/NOPB; Function: Step-Up; Output Configuration: Positive; Output Type: Adjustable; Number of Outputs: 1; Voltage - Input (Min): 2.7V; Voltage - Input (Max): 14V; Voltage - Output (Min/Fixed): 3V; Voltage - Output (Max): 20V; Current - Output: 1.8A (Switch); Frequency - Switching: 1.6MHz; Synchronous Rectifier: No; Supplier 1: Digi-Key; RoHS: RoHS Compliant; Category: Integrated Circuits (ICs); Stock 1: 13608; Pricing 1: 1=1.68, 10=1.505, 100=1.1732, 500=0.9702, 1000=0.61875 (USD); Packaging: Cut Tape (CT); Part Status: Active; Topology: Boost; Operating Temperature: -40°C ~ 125°C (TJ); Mounting Type: Surface Mount; Package / Case: SC-74A, SOT-753; Supplier Device Package: SOT-23-5; ComponentLink1URL: http://www.ti.com/lit/ds/symlink/lmr62014.pdf; ComponentLink1Description: http://www.ti.com/lit/ds/symlink/lmr62014.pdf; Supplier Part Number 1: LMR62014XMF/NOPBCT-ND
footprint SOT23-5 N
pins: 1 SW, 2 GND (power), 3 FB (in), 4 ~{SHDN} (in), 5 VIN (power)

## IC REG LDO 3.3V 0.3A SOT-23-5
designator U?, comment MIC5504-3.3
IC REG LDO 3.3V 0.3A SOT-23-5; Manufacturer: Microchip Technology; Manufacturer Part Number: MIC5504-3.3YM5-TR; Regulator Topology: Positive Fixed; Current - Output: 300mA; Voltage - Dropout (Typical): 0.16V @ 300mA; Number of Regulators: 1; Voltage - Input: Up to 5.5V; Current - Limit (Min): 400mA; Supplier 1: Digi-Key; RoHS: RoHS Compliant; Category: Integrated Circuits (ICs); Stock 1: 0; Pricing 1: 1=0.11, 25=0.09, 100=0.08 (USD); Packaging: Cut Tape (CT); Part Status: Active; Voltage - Output: 3.3V; Operating Temperature: -40°C ~ 125°C; Mounting Type: Surface Mount; Package / Case: SC-74A, SOT-753; Supplier Device Package: SOT-23-5; ComponentLink1URL: http://www.microchip.com/mymicrochip/filehandler.aspx?ddocname=en580292; ComponentLink1Description: http://www.microchip.com/mymicrochip/filehandler.aspx?ddocname=en580292; Supplier Part Number 1: 576-4764-1-ND
footprint SOT23-5 N
pins: 1 VIN (power), 2 GND (power), 3 EN (in), 4 NC, 5 VOUT (power)

## IC REG LDO 5V 0.5A SOT223
designator U?, comment UA78M05
IC REG LDO 5V 0.5A SOT223; Manufacturer: Texas Instruments; Manufacturer Part Number: UA78M05IDCYR; Regulator Topology: Positive Fixed; Current - Output: 500mA; Voltage - Dropout (Typical): 2V @ 350mA; Number of Regulators: 1; Voltage - Input: 7 V ~ 25 V; Supplier 1: Digi-Key; RoHS: RoHS Compliant; Category: Integrated Circuits (ICs); Stock 1: 7692; Pricing 1: 1=0.62, 10=0.544, 100=0.416, 500=0.3296, 1000=0.264 (USD); Packaging: Cut Tape (CT); Part Status: Active; Voltage - Output: 5V; Current - Limit (Min): -; Operating Temperature: -40°C ~ 125°C; Mounting Type: Surface Mount; Package / Case: TO-261-4, TO-261AA; Supplier Device Package: SOT-223-4; ComponentLink1URL: http://www.ti.com/lit/ds/symlink/ua78m05.pdf; ComponentLink1Description: http://www.ti.com/lit/ds/symlink/ua78m05.pdf; Supplier Part Number 1: 296-17616-1-ND
footprint SOT223-4 N (SOT223, 4-Leads, Body 6,50x7,00mm (avg), Pitch 2,30mm, IPC Medium Density)
pins: 1 Vin, 2 GND, 3 Vout

## LCD 16x2
designator LCD?
Display LCD 16x2
footprint Display LCD 16x2 (Display LCD 16x2; Body 80.0 x 36.0 mm)
pins: 1 GND (power), 2 VCC (power), 3 VEE, 4 RS (in), 5 R/W (in), 6 EN (in), 7 DB0 (io), 8 DB1 (io), 9 DB2 (io), 10 DB3 (io), 11 DB4 (io), 12 DB5 (io), 13 DB6 (io), 14 DB7 (io), 15 A+, 16 K-

## LED GREEN CLEAR 0805 SMD
designator LED?, comment Green  (value not drawn)
LED GREEN CLEAR 0805 SMD; Manufacturer: Lite-On Inc.; Manufacturer Part Number: LTST-C171KGKT; Lens Color: Colorless; Millicandela Rating: 35mcd; Lens Style/Size: Rectangle with Flat Top, 1.40mm x 1.25mm; Voltage - Forward (Vf) (Typ): 2V; Current - Test: 20mA; Viewing Angle: 130°; Wavelength - Dominant: 571nm; Wavelength - Peak: 574nm; Supplier 1: Digi-Key; RoHS: RoHS Compliant; Category: Optoelectronics; Stock 1: 350122; Pricing 1: 1=0.31, 10=0.225, 25=0.1656, 100=0.1183, 250=0.0804, 500=0.07096, 1000=0.05558 (USD); Packaging: Cut Tape (CT); Color: Green; Lens Transparency: Clear; Mounting Type: Surface Mount; Features: -; Package / Case: 0805 (2012 Metric); Supplier Device Package: *; Size / Dimension: 2.00mm L x 1.25mm W; Height (Max): 0.80mm; ComponentLink1URL: http://optoelectronics.liteon.com/upload/download/DS22-2000-118/S_110_LTST-C171KGKT.pdf; ComponentLink1Description: http://optoelectronics.liteon.com/upload/download/DS22-2000-118/S_110_LTST-C171KGKT.pdf; Supplier Part Number 1: 160-1426-1-ND
footprint LED 0805 GREEN
pins: 1 A, 2 K

## LED RED CLEAR 0805 SMD
designator LED?, comment Blue  (value not drawn)
LED RED CLEAR 0805 SMD; Manufacturer: Lite-On Inc.; Manufacturer Part Number: LTST-C171KRKT; Lens Color: Colorless; Millicandela Rating: 54mcd; Lens Style/Size: Rectangle with Flat Top, 1.40mm x 1.25mm; Voltage - Forward (Vf) (Typ): 2V; Current - Test: 20mA; Viewing Angle: 130°; Wavelength - Dominant: 631nm; Wavelength - Peak: 639nm; Supplier 1: Digi-Key; RoHS: RoHS Compliant; Category: Optoelectronics; Stock 1: 214261; Pricing 1: 1=0.31, 10=0.225, 25=0.1656, 100=0.1183, 250=0.0804, 500=0.07096, 1000=0.05558 (USD); Packaging: Cut Tape (CT); Color: Red; Lens Transparency: Clear; Mounting Type: Surface Mount; Features: -; Package / Case: 0805 (2012 Metric); Supplier Device Package: *; Size / Dimension: 2.00mm L x 1.25mm W; Height (Max): 0.80mm; ComponentLink1URL: http://optoelectronics.liteon.com/upload/download/DS22-2000-109/S_110_LTST-C171KRKT.pdf; ComponentLink1Description: http://optoelectronics.liteon.com/upload/download/DS22-2000-109/S_110_LTST-C171KRKT.pdf; Supplier Part Number 1: 160-1427-1-ND
footprint LED 0805 RED (LED 0805 GREEN)
pins: 1 A, 2 K

## LED RGB 622NM 529NM 469NM 4LCC
designator LED?, comment RGB
LED RGB 622NM 529NM 469NM 4LCC; Manufacturer: Cree Inc.; Manufacturer Part Number: CLV1L-FKB-CHMMQDGBB7673673; Color: Red, Green, Blue (RGB); Millicandela Rating: 628mcd Red, 1255mcd Green, 248mcd Blue; Lens Style/Size: Round with Flat Top; Voltage - Forward (Vf) (Typ): 2V Red, 3.2V Green, 3.2V Blue; Current - Test: 20mA Red, 15mA Green, 15mA Blue; Wavelength - Dominant: 622nm Red, 529nm Green, 469nm Blue; Supplier 1: Digi-Key; RoHS: RoHS Compliant; Category: Optoelectronics; Stock 1: 0; Pricing 1: 2000=0.185 (USD); Packaging: Tape & Reel (TR); Lens Color: -; Lens Transparency: -; Viewing Angle: -; Mounting Type: Surface Mount; Wavelength - Peak: -; Features: -; Package / Case: 4-LCC (J-Lead); Supplier Device Package: 4-PLCC; Size / Dimension: 3.20mm L x 2.80mm W; Height (Max): 2.10mm; ComponentLink1URL: http://www.cree.com/~/media/Files/Cree/LED-Components-and-Modules/HB/Data-Sheets/CLV1L-FKB-1238.pdf; ComponentLink1Description: http://www.cree.com/~/media/Files/Cree/LED-Components-and-Modules/HB/Data-Sheets/CLV1L-FKB-1238.pdf; Supplier Part Number 1: CLV1L-FKB-CHMMQDGBB7673673-ND
footprint PLCC-4
pins: 1 A, 2 R-, 3 G-, 4 B-
text: B; G; R

## MOSFET N CH 60V 240A D2PAK
designator Q?, comment IRFS7530
MOSFET N CH 60V 240A D2PAK; Manufacturer: Infineon Technologies; Manufacturer Part Number: IRFS7530TRL7PP; FET Type: MOSFET N-Channel, Metal Oxide; FET Feature: Standard; Current - Continuous Drain (Id) @ 25°C: 240A (Tc); Rds On (Max) @ Id, Vgs: 1.4 mOhm @ 100A, 10V; Vgs(th) (Max) @ Id: 3.7V @ 250µA; Gate Charge (Qg) @ Vgs: 354nC @ 10V; Input Capacitance (Ciss) @ Vds: 12960pF @ 25V; Power - Max: 375W; Supplier 1: Digi-Key; RoHS: RoHS Compliant; Category: Discrete Semiconductor Products; Stock 1: 766; Pricing 1: 1=3.76, 10=3.38, 100=2.7697 (USD); Packaging: Cut Tape (CT); Part Status: Active; Drain to Source Voltage (Vdss): 60V; Operating Temperature: -55°C ~ 175°C (TJ); Mounting Type: Surface Mount; Package / Case: TO-263-7, D²Pak (6 Leads + Tab); Supplier Device Package: D2PAK (7-Lead); ComponentLink1URL: http://www.infineon.com/dgdl/irfs7530-7ppbf.pdf?fileId=5546d462533600a40153563a9d1e21d8; ComponentLink1Description: http://www.infineon.com/dgdl/irfs7530-7ppbf.pdf?fileId=5546d462533600a40153563a9d1e21d8; Supplier Part Number 1: IRFS7530TRL7PPCT-ND
footprint TO263-7 (D2PAK-7)
pins: 1 G, 2 D, 3 S

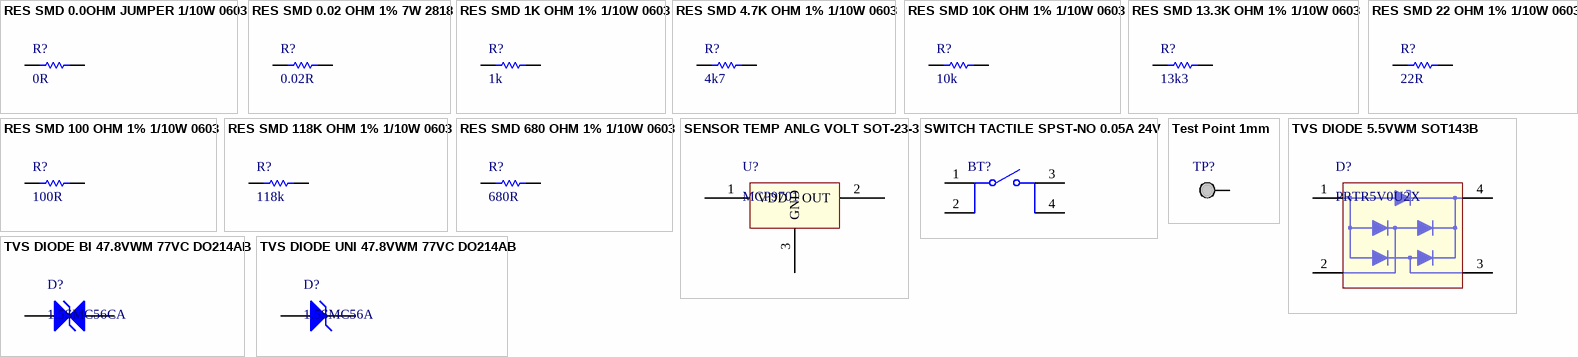
[diagram p1: symbols RES SMD 0.0OHM JUMPER 1/10W 0603 to TVS DIODE UNI 47.8VWM 77VC DO214AB]

## RES SMD 0.0OHM JUMPER 1/10W 0603
designator R?, comment 0R
RES SMD 0.0OHM JUMPER 1/10W 0603; Manufacturer: Panasonic Electronic Components; Manufacturer Part Number: ERJ-3GEY0R00V; Resistance (Ohms): 0.0; Power (Watts): 0.1W, 1/10W; Supplier 1: Digi-Key; RoHS: RoHS Compliant; Category: Resistors; Stock 1: 5501111; Pricing 1: 1=0.1, 50=0.0126, 100=0.0096, 250=0.00716, 500=0.00528, 1000=0.00352, 2500=0.00297 (USD); Packaging: Cut Tape (CT); Part Status: Active; Tolerance: Jumper; Composition: Thick Film; Features: Automotive AEC-Q200; Temperature Coefficient: -; Operating Temperature: -55°C ~ 155°C; Package / Case: 0603 (1608 Metric); Supplier Device Package: 0603; Size / Dimension: 0.063" L x 0.031" W (1.60mm x 0.80mm); Height: 0.022" (0.55mm); Number of Terminations: 2; Failure Rate: -; ComponentLink1URL: http://industrial.panasonic.com/www-cgi/jvcr13pz.cgi?E+PZ+3+AOA0001+ERJ3GEY0R00V+7+WW; ComponentLink1Description: http://industrial.panasonic.com/www-cgi/jvcr13pz.cgi?E+PZ+3+AOA0001+ERJ3GEY0R00V+7+WW; Supplier Part Number 1: P0.0GCT-ND
footprint RES 0603 N (Chip, Body 1.6x0.8mm, IPC Medium Density)
pins: 1, 2

## RES SMD 0.02 OHM 1% 7W 2818
designator R?, comment 0.02R
RES SMD 0.02 OHM 1% 7W 2818; Manufacturer: Vishay Dale; Manufacturer Part Number: WSHM2818R0200FEA; Resistance (Ohms): 0.02; Temperature Coefficient: ±75ppm/°C; Supplier 1: Digi-Key; RoHS: RoHS Compliant; Category: Resistors; Stock 1: 2419; Pricing 1: 1=1.35, 10=1.194, 25=1.0972, 50=1.001, 100=0.8663, 250=0.73152, 500=0.616, 1000=0.51205 (USD); Packaging: Cut Tape (CT); Part Status: Active; Tolerance: ±1%; Power (Watts): 7W; Composition: Metal Element; Features: Automotive AEC-Q200, Current Sense, Moisture Resistant, Pulse Withstanding; Operating Temperature: -65°C ~ 170°C; Package / Case: 2818; Supplier Device Package: 2818; Size / Dimension: 0.280" L x 0.181" W (7.10mm x 4.60mm); Height: 0.069" (1.75mm); Number of Terminations: 2; Failure Rate: -; ComponentLink1URL: http://www.vishay.com/docs/30188/wshm2818.pdf; ComponentLink1Description: http://www.vishay.com/docs/30188/wshm2818.pdf; Supplier Part Number 1: 541-2628-1-ND
footprint SENSE RES 2818 N (Chip Resistor, 2-Leads, Body 7,05x4,60mm, IPC Medium Density)
pins: 1, 2

## RES SMD 1K OHM 1% 1/10W 0603
designator R?, comment 1k
RES SMD 1K OHM 1% 1/10W 0603; Manufacturer: Panasonic Electronic Components; Manufacturer Part Number: ERJ-3EKF1001V; Power (Watts): 0.1W, 1/10W; Temperature Coefficient: ±100ppm/°C; Supplier 1: Digi-Key; RoHS: RoHS Compliant; Category: Resistors; Stock 1: 3594551; Pricing 1: 1=0.1, 50=0.0114, 100=0.0084, 250=0.00644, 500=0.00514, 1000=0.00379 (USD); Packaging: Cut Tape (CT); Part Status: Active; Resistance (Ohms): 1k; Tolerance: ±1%; Composition: Thick Film; Features: Automotive AEC-Q200; Operating Temperature: -55°C ~ 155°C; Package / Case: 0603 (1608 Metric); Supplier Device Package: 0603; Size / Dimension: 0.063" L x 0.031" W (1.60mm x 0.80mm); Height: 0.022" (0.55mm); Number of Terminations: 2; Failure Rate: -; ComponentLink1URL: http://industrial.panasonic.com/www-cgi/jvcr13pz.cgi?E+PZ+3+AOA0002+ERJ3EKF1001V+7+WW; ComponentLink1Description: http://industrial.panasonic.com/www-cgi/jvcr13pz.cgi?E+PZ+3+AOA0002+ERJ3EKF1001V+7+WW; Supplier Part Number 1: P1.00KHCT-ND
footprint RES 0603 N (Chip, Body 1.6x0.8mm, IPC Medium Density)
pins: 1, 2

## RES SMD 4.7K OHM 1% 1/10W 0603
designator R?, comment 4k7
RES SMD 4.7K OHM 1% 1/10W 0603; Manufacturer: Panasonic Electronic Components; Manufacturer Part Number: ERJ-3EKF4701V; Power (Watts): 0.1W, 1/10W; Temperature Coefficient: ±100ppm/°C; Supplier 1: Digi-Key; RoHS: RoHS Compliant; Category: Resistors; Stock 1: 1626868; Pricing 1: 1=0.1, 50=0.0114, 100=0.0084, 250=0.00644, 500=0.00514, 1000=0.00379 (USD); Packaging: Cut Tape (CT); Part Status: Active; Resistance (Ohms): 4.7k; Tolerance: ±1%; Composition: Thick Film; Features: Automotive AEC-Q200; Operating Temperature: -55°C ~ 155°C; Package / Case: 0603 (1608 Metric); Supplier Device Package: 0603; Size / Dimension: 0.063" L x 0.031" W (1.60mm x 0.80mm); Height: 0.022" (0.55mm); Number of Terminations: 2; Failure Rate: -; ComponentLink1URL: http://industrial.panasonic.com/www-cgi/jvcr13pz.cgi?E+PZ+3+AOA0002+ERJ3EKF4701V+7+WW; ComponentLink1Description: http://industrial.panasonic.com/www-cgi/jvcr13pz.cgi?E+PZ+3+AOA0002+ERJ3EKF4701V+7+WW; Supplier Part Number 1: P4.70KHCT-ND
footprint RES 0603 N (Chip, Body 1.6x0.8mm, IPC Medium Density)
pins: 1, 2

## RES SMD 10K OHM 1% 1/10W 0603
designator R?, comment 10k
RES SMD 10K OHM 1% 1/10W 0603; Manufacturer: Panasonic Electronic Components; Manufacturer Part Number: ERJ-3EKF1002V; Power (Watts): 0.1W, 1/10W; Temperature Coefficient: ±100ppm/°C; Supplier 1: Digi-Key; RoHS: RoHS Compliant; Category: Resistors; Stock 1: 502; Pricing 1: 1=0.1, 50=0.0114, 100=0.0084, 250=0.00644, 500=0.00514, 1000=0.00379 (USD); Packaging: Cut Tape (CT); Part Status: Active; Resistance (Ohms): 10k; Tolerance: ±1%; Composition: Thick Film; Features: Automotive AEC-Q200; Operating Temperature: -55°C ~ 155°C; Package / Case: 0603 (1608 Metric); Supplier Device Package: 0603; Size / Dimension: 0.063" L x 0.031" W (1.60mm x 0.80mm); Height: 0.022" (0.55mm); Number of Terminations: 2; Failure Rate: -; ComponentLink1URL: http://industrial.panasonic.com/www-cgi/jvcr13pz.cgi?E+PZ+3+AOA0002+ERJ3EKF1002V+7+WW; ComponentLink1Description: http://industrial.panasonic.com/www-cgi/jvcr13pz.cgi?E+PZ+3+AOA0002+ERJ3EKF1002V+7+WW; Supplier Part Number 1: P10.0KHCT-ND
footprint RES 0603 N (Chip, Body 1.6x0.8mm, IPC Medium Density)
pins: 1, 2

## RES SMD 13.3K OHM 1% 1/10W 0603
designator R?, comment 13k3
RES SMD 13.3K OHM 1% 1/10W 0603; Manufacturer: Panasonic Electronic Components; Manufacturer Part Number: ERJ-3EKF1332V; Power (Watts): 0.1W, 1/10W; Temperature Coefficient: ±100ppm/°C; Supplier 1: Digi-Key; RoHS: RoHS Compliant; Category: Resistors; Stock 1: 41014; Pricing 1: 1=0.1, 50=0.0114, 100=0.0084, 250=0.00644, 500=0.00514, 1000=0.00379 (USD); Packaging: Cut Tape (CT); Part Status: Active; Resistance (Ohms): 13.3k; Tolerance: ±1%; Composition: Thick Film; Features: Automotive AEC-Q200; Operating Temperature: -55°C ~ 155°C; Package / Case: 0603 (1608 Metric); Supplier Device Package: 0603; Size / Dimension: 0.063" L x 0.031" W (1.60mm x 0.80mm); Height: 0.022" (0.55mm); Number of Terminations: 2; Failure Rate: -; ComponentLink1URL: http://industrial.panasonic.com/www-cgi/jvcr13pz.cgi?E+PZ+3+AOA0002+ERJ3EKF1332V+7+WW; ComponentLink1Description: http://industrial.panasonic.com/www-cgi/jvcr13pz.cgi?E+PZ+3+AOA0002+ERJ3EKF1332V+7+WW; Supplier Part Number 1: P13.3KHCT-ND
footprint RES 0603 N (Chip, Body 1.6x0.8mm, IPC Medium Density)
pins: 1, 2

## RES SMD 22 OHM 1% 1/10W 0603
designator R?, comment 22R
RES SMD 22 OHM 1% 1/10W 0603; Manufacturer: Panasonic Electronic Components; Manufacturer Part Number: ERJ-3EKF22R0V; Resistance (Ohms): 22; Power (Watts): 0.1W, 1/10W; Temperature Coefficient: ±100ppm/°C; Supplier 1: Digi-Key; RoHS: RoHS Compliant; Category: Resistors; Stock 1: 259565; Pricing 1: 1=0.1, 50=0.0114, 100=0.0084, 250=0.00644, 500=0.00514, 1000=0.00379 (USD); Packaging: Cut Tape (CT); Part Status: Active; Tolerance: ±1%; Composition: Thick Film; Features: Automotive AEC-Q200; Operating Temperature: -55°C ~ 155°C; Package / Case: 0603 (1608 Metric); Supplier Device Package: 0603; Size / Dimension: 0.063" L x 0.031" W (1.60mm x 0.80mm); Height: 0.022" (0.55mm); Number of Terminations: 2; Failure Rate: -; ComponentLink1URL: http://industrial.panasonic.com/www-cgi/jvcr13pz.cgi?E+PZ+3+AOA0002+ERJ3EKF22R0V+7+WW; ComponentLink1Description: http://industrial.panasonic.com/www-cgi/jvcr13pz.cgi?E+PZ+3+AOA0002+ERJ3EKF22R0V+7+WW; Supplier Part Number 1: P22.0HCT-ND
footprint RES 0603 N (Chip, Body 1.6x0.8mm, IPC Medium Density)
pins: 1, 2

## RES SMD 100 OHM 1% 1/10W 0603
designator R?, comment 100R
RES SMD 100 OHM 1% 1/10W 0603; Manufacturer: Panasonic Electronic Components; Manufacturer Part Number: ERJ-3EKF1000V; Resistance (Ohms): 100; Power (Watts): 0.1W, 1/10W; Temperature Coefficient: ±100ppm/°C; Supplier 1: Digi-Key; RoHS: RoHS Compliant; Category: Resistors; Stock 1: 1392957; Pricing 1: 1=0.1, 50=0.0114, 100=0.0084, 250=0.00644, 500=0.00514, 1000=0.00379 (USD); Packaging: Cut Tape (CT); Part Status: Active; Tolerance: ±1%; Composition: Thick Film; Features: Automotive AEC-Q200; Operating Temperature: -55°C ~ 155°C; Package / Case: 0603 (1608 Metric); Supplier Device Package: 0603; Size / Dimension: 0.063" L x 0.031" W (1.60mm x 0.80mm); Height: 0.022" (0.55mm); Number of Terminations: 2; Failure Rate: -; ComponentLink1URL: http://industrial.panasonic.com/www-cgi/jvcr13pz.cgi?E+PZ+3+AOA0002+ERJ3EKF1000V+7+WW; ComponentLink1Description: http://industrial.panasonic.com/www-cgi/jvcr13pz.cgi?E+PZ+3+AOA0002+ERJ3EKF1000V+7+WW; Supplier Part Number 1: P100HCT-ND
footprint RES 0603 N (Chip, Body 1.6x0.8mm, IPC Medium Density)
pins: 1, 2

## RES SMD 118K OHM 1% 1/10W 0603
designator R?, comment 118k
RES SMD 118K OHM 1% 1/10W 0603; Manufacturer: Panasonic Electronic Components; Manufacturer Part Number: ERJ-3EKF1183V; Power (Watts): 0.1W, 1/10W; Temperature Coefficient: ±100ppm/°C; Supplier 1: Digi-Key; RoHS: RoHS Compliant; Category: Resistors; Stock 1: 84377; Pricing 1: 1=0.1, 50=0.0114, 100=0.0084, 250=0.00644, 500=0.00514, 1000=0.00379 (USD); Packaging: Cut Tape (CT); Part Status: Active; Resistance (Ohms): 118k; Tolerance: ±1%; Composition: Thick Film; Features: Automotive AEC-Q200; Operating Temperature: -55°C ~ 155°C; Package / Case: 0603 (1608 Metric); Supplier Device Package: 0603; Size / Dimension: 0.063" L x 0.031" W (1.60mm x 0.80mm); Height: 0.022" (0.55mm); Number of Terminations: 2; Failure Rate: -; ComponentLink1URL: http://industrial.panasonic.com/www-cgi/jvcr13pz.cgi?E+PZ+3+AOA0002+ERJ3EKF1183V+7+WW; ComponentLink1Description: http://industrial.panasonic.com/www-cgi/jvcr13pz.cgi?E+PZ+3+AOA0002+ERJ3EKF1183V+7+WW; Supplier Part Number 1: P118KHCT-ND
footprint RES 0603 N (Chip, Body 1.6x0.8mm, IPC Medium Density)
pins: 1, 2

## RES SMD 680 OHM 1% 1/10W 0603
designator R?, comment 680R
RES SMD 680 OHM 1% 1/10W 0603; Manufacturer: Panasonic Electronic Components; Manufacturer Part Number: ERJ-3EKF6800V; Resistance (Ohms): 680; Power (Watts): 0.1W, 1/10W; Temperature Coefficient: ±100ppm/°C; Supplier 1: Digi-Key; RoHS: RoHS Compliant; Category: Resistors; Stock 1: 63077; Pricing 1: 1=0.1, 50=0.0114, 100=0.0084, 250=0.00644, 500=0.00514, 1000=0.00379 (USD); Packaging: Cut Tape (CT); Part Status: Active; Tolerance: ±1%; Composition: Thick Film; Features: Automotive AEC-Q200; Operating Temperature: -55°C ~ 155°C; Package / Case: 0603 (1608 Metric); Supplier Device Package: 0603; Size / Dimension: 0.063" L x 0.031" W (1.60mm x 0.80mm); Height: 0.022" (0.55mm); Number of Terminations: 2; Failure Rate: -; ComponentLink1URL: http://industrial.panasonic.com/www-cgi/jvcr13pz.cgi?E+PZ+3+AOA0002+ERJ3EKF6800V+7+WW; ComponentLink1Description: http://industrial.panasonic.com/www-cgi/jvcr13pz.cgi?E+PZ+3+AOA0002+ERJ3EKF6800V+7+WW; Supplier Part Number 1: P680HCT-ND
footprint RES 0603 N (Chip, Body 1.6x0.8mm, IPC Medium Density)
pins: 1, 2

## SENSOR TEMP ANLG VOLT SOT-23-3
designator U?, comment MCP9701
SENSOR TEMP ANLG VOLT SOT-23-3; Manufacturer: Microchip Technology; Manufacturer Part Number: MCP9701AT-E/TT; Sensor Type: Analog, Local; Sensing Temperature - Local: -10°C ~ 125°C; Output Type: Analog Voltage; Voltage - Supply: 3.1 V ~ 5.5 V; Resolution: 19.5mV/°C; Accuracy - Highest (Lowest): ±2°C (-2°C, +4°C); Test Condition: 0°C ~ 70°C (-10°C ~ 125°C); Supplier 1: Digi-Key; RoHS: RoHS Compliant; Category: Sensors, Transducers; Stock 1: 23643; Pricing 1: 1=0.31, 25=0.26, 100=0.24 (USD); Packaging: Cut Tape (CT); Sensing Temperature - Remote: -; Features: -; Operating Temperature: -40°C ~ 125°C; Package / Case: TO-236-3, SC-59, SOT-23-3; Supplier Device Package: SOT-23-3; ComponentLink1URL: http://www.microchip.com/mymicrochip/filehandler.aspx?ddocname=en022859; ComponentLink1Description: http://www.microchip.com/mymicrochip/filehandler.aspx?ddocname=en022859; Supplier Part Number 1: MCP9701AT-E/TTCT-ND
footprint SOT23-3 N (SOT23, 3-Leads, Body 2.9x1.3mm, Pitch 0.95mm, Lead Span 2.5mm, IPC Medium Density)
pins: 1 VDD (power), 2 OUT (power), 3 GND (power)

## SWITCH TACTILE SPST-NO 0.05A 24V
designator BT?, comment SPST  (value not drawn)
SWITCH TACTILE SPST-NO 0.05A 24V; Manufacturer: TE Connectivity ALCOSWITCH Switches; Manufacturer Part Number: FSM2JSMAA; Switch Function: Off-Mom; Contact Rating @ Voltage: 0.05A @ 24VDC; Actuator Type: Standard; Actuator Height off PCB, from Pins: 4.30mm; Actuator Orientation: Top Actuated; Outline: 6.00mm x 6.00mm; Illumination: Non-Illuminated; Operating Force: 260gf; Actuator Material: Polyamide (PA), Nylon; Switch Travel: 0.25mm; Mechanical Life: 100,000 Cycles; Supplier 1: Digi-Key; RoHS: RoHS Compliant; Category: Switches; Stock 1: 1989; Pricing 1: 1=0.16, 10=0.159, 25=0.1532, 50=0.1476, 100=0.1394, 250=0.1312, 500=0.12574, 1000=0.09568 (USD); Packaging: Bulk; Part Status: Active; Circuit: SPST-NO; Mounting Type: Surface Mount; Termination Style: Gull Wing; Illumination Voltage (Nominal): -; Illumination Type, Color: -; Ingress Protection: -; Features: -; Operating Temperature: -35°C ~ 85°C; ComponentLink1URL: http://www.te.com/commerce/DocumentDelivery/DDEController?Action=srchrtrv&DocNm=2-1437565-7&DocType=Customer+Drawing&DocLang=English; ComponentLink1Description: http://www.te.com/commerce/DocumentDelivery/DDEController?Action=srchrtrv&DocNm=2-1437565-7&DocType=Customer+Drawing&DocLang=English; Supplier Part Number 1: FSM2JSMAA-ND
footprint TACTILE SWITCH 4.3MM
pins: 1, 2, 3, 4

## Test Point 1mm
designator TP?  (value not drawn)
footprint TEST POINT
pins: 1